# EAGLE library part AT45DB041E-SSHN-B (library Memory)
IC FLASH 4M SPI 85MHZ 8SOIC Manufacturer's datasheet <http://www.adestotech.com/wp-content/uploads/doc8783.pdf>
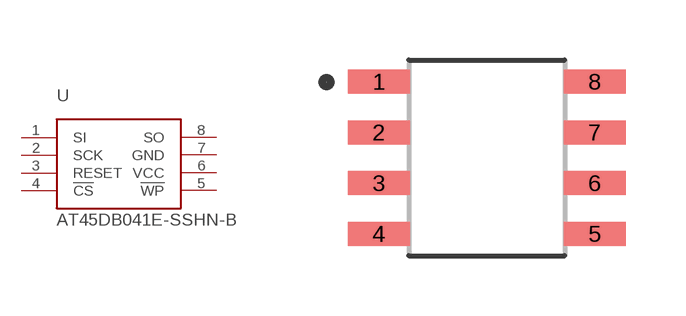
[diagram p6: symbol with the pads of SOIC8; footprint SOIC8]

Designator prefix U

## AT45DB041E-SSHN-B (CREATED_BY: PCBLayout.com; DIGIKEY_PART_NUMBER: 1265-1067-5-ND; MANUFACTURER: Adesto Technologies; MPN: AT45DB041E-SSHN-B; PACKAGE: SOIC-8)  [SOIC8]
1  SI  in
2  SCK  in
3  RESET  in
4  !CS  in
5  !WP  in
6  VCC  pwr
7  GND  pwr
8  SO  out

## Footprint SOIC8 (pad centres in mm)
smd 1.55 x 0.6: 1 -2.7,1.905; 2 -2.7,0.635; 3 -2.7,-0.635; 4 -2.7,-1.905; 5 2.7,-1.905; 6 2.7,-0.635; 7 2.7,0.635; 8 2.7,1.905